# EAGLE library part BMP085 (library X893)
http://www.bosch-sensortec.com/content/language1/downloads/BST-BMP085-DS000-06.pdf http://www.bosch-sensortec.com/content/language1/downloads/BMP085_Flyer_Rev.0.2_March2008.pdf
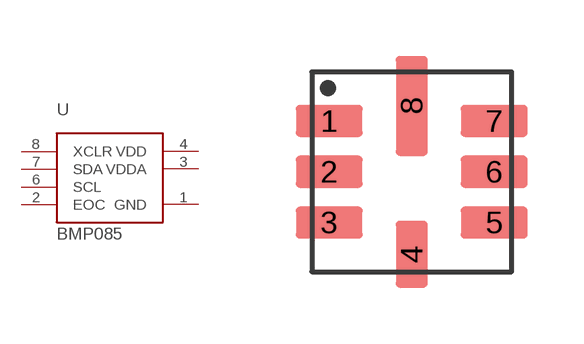
[diagram p170: symbol with the pads of BMP085; footprint BMP085]

Designator prefix U

## BMP085  [BMP085]
1  GND  sup
2  EOC  out
3  VDDA
4  VDD
6  SCL  in
7  SDA
8  XCLR  in

## Footprint BMP085 (pad centres in mm)
smd 1.67 x 0.8: 1 -2.065,1.27; 2 -2.065,0; 3 -2.065,-1.27; 5 2.065,-1.27; 6 2.065,0; 7 2.065,1.27
smd 0.8 x 1.67: 4 0,-2.065
smd 0.8 x 2.5: 8 0,1.65